# Altium footprint library PCB - BUTTONS - KLS7-TS6601-4.3-180.PcbLib: 1 footprints
Each footprint in its own frame and in the unit in brackets; x right, y up, seen from the top. Pads: shape width x height; smd on the part's side, far side on the other; paste and mask are expansions set on the pad; w line width, h text height; cw(c..) or ccw(c..) is an arc to the next point about the centre after c.
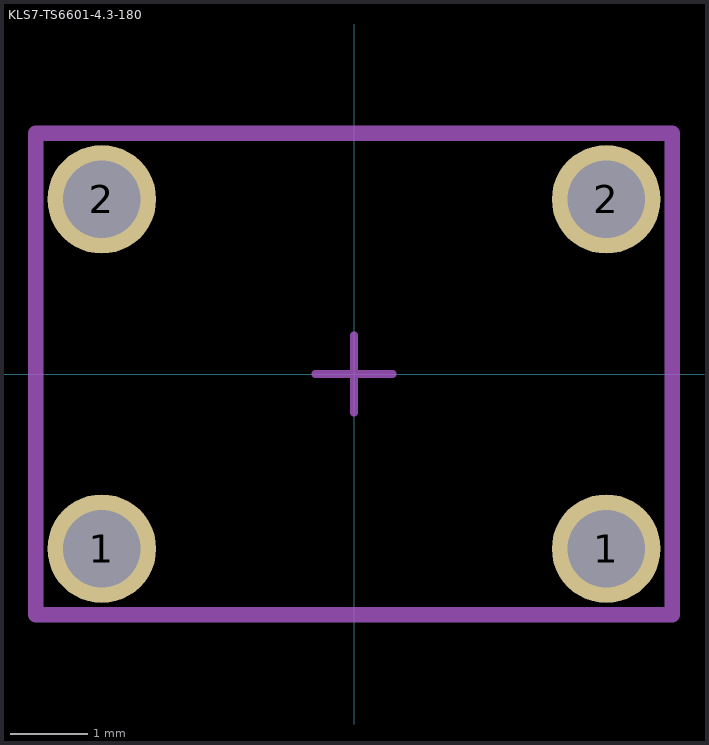
[diagram p0: the footprint, top view; thin cyan lines are the x and y axes]

## KLS7-TS6601-4.3-180 [mm] "Tactile Switch, SMD 6x6x4.3mm"
height 4.3
pads (4):
  round 1.4 hole 1 unplated: 1(-3.25,-2.25) 1(3.25,-2.25) 2(-3.25,2.25) 2(3.25,2.25)
Top Assembly:
  lines w0.2: -4.1,-3.1 4.1,-3.1 4.1,3.1 -4.1,3.1 -4.1,-3.1
Top Courtyard:
  lines w0.1: -4.1,-3.1 -4.1,3.1 4.1,3.1 4.1,-3.1 -4.1,-3.1
Top Component Center:
  lines w0.1: -0.5,0 0.5,0 ; 0,-0.5 0,0.5
3D body "KLS7-TS6601-4.3-180.stp": height 4.3, standoff -3.5, extent -3.85,-3 3.85,3